# Altium schematic symbol library AS7C34096.SchLib: 1 symbol
Pins are listed as number, name and electrical type; pins without a type are passive.

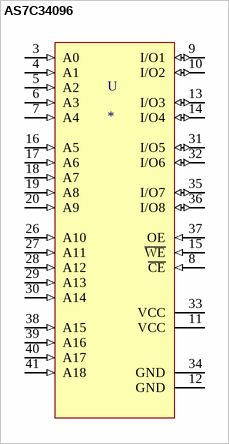
[diagram p0: symbol AS7C34096]

## AS7C34096
designator U
SRAM, 4MB, 3V, 12NS, 512KX8, TSOP44; farnell: 1562918
pins: 3 A0 (in), 4 A1 (in), 5 A2 (in), 6 A3 (in), 7 A4 (in), 8 ~{CE} (in), 9 I/O1 (io), 10 I/O2 (io), 11 VCC (power), 12 GND (power), 13 I/O3 (io), 14 I/O4 (io), 15 ~{WE} (in), 16 A5 (in), 17 A6 (in), 18 A7 (in), 19 A8 (in), 20 A9 (in), 26 A10 (in), 27 A11 (in), 28 A12 (in), 29 A13 (in), 30 A14 (in), 31 I/O5 (io), 32 I/O6 (io), 33 VCC (power), 34 GND (power), 35 I/O7 (io), 36 I/O8 (io), 37 OE (in), 38 A15 (in), 39 A16 (in), 40 A17 (in), 41 A18 (in)